# EAGLE library part PINHD-1X8 (library wsn)
PIN HEADER
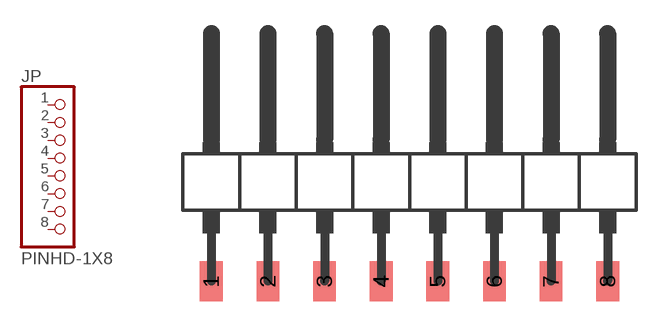
[diagram p15: symbol with the pads of 1X08SMD/90; footprint 1X08SMD/90]

Designator prefix JP

## PINHD-1X8  [1X08SMD/90]
1  1  pas
2  2  pas
3  3  pas
4  4  pas
5  5  pas
6  6  pas
7  7  pas
8  8  pas

## Footprint 1X08SMD/90 (pad centres in mm)
PIN HEADER - 2.54 90°
smd 1.016 x 1.778: 1 -1.27,-5.08; 2 1.27,-5.08; 3 3.81,-5.08; 4 6.35,-5.08; 5 8.89,-5.08; 6 11.43,-5.08; 7 13.97,-5.08; 8 16.51,-5.08